# Altium footprint library SOP-20.PcbLib: 1 footprints
Each footprint in its own frame and in the unit in brackets; x right, y up, seen from the top. Pads: shape width x height; smd on the part's side, far side on the other; paste and mask are expansions set on the pad; w line width, h text height; cw(c..) or ccw(c..) is an arc to the next point about the centre after c.
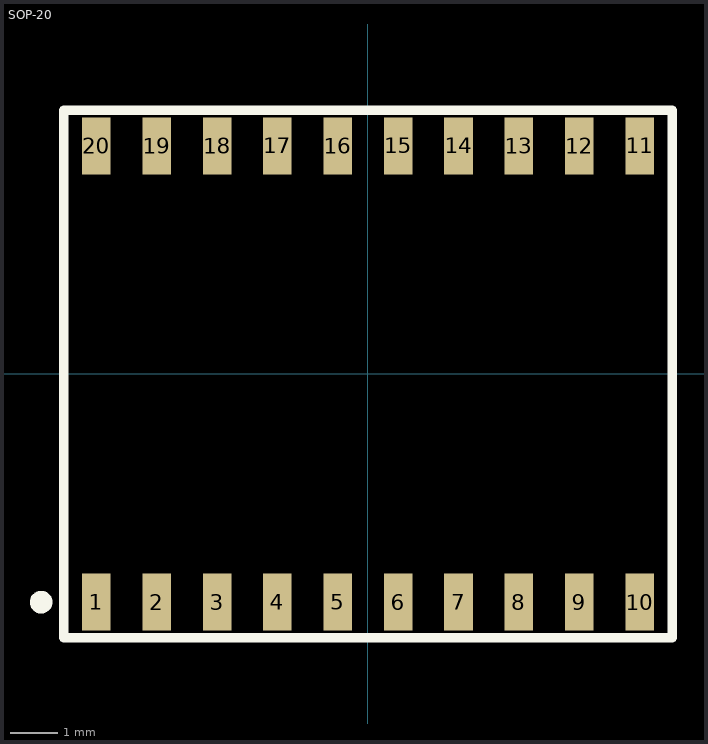
[diagram p0: the footprint, top view; thin cyan lines are the x and y axes]

## SOP-20 [mm]
pads (20):
  rect 0.6x1.2 smd: 1(-5.715,-4.8) 2(-4.445,-4.8) 3(-3.175,-4.8) 4(-1.905,-4.8) 5(-0.635,-4.8) 6(0.635,-4.8) 7(1.905,-4.8) 8(3.175,-4.8) 9(4.445,-4.8) 10(5.715,-4.8) 11(5.715,4.8) 12(4.445,4.8) 13(3.175,4.8) 14(1.905,4.8) 15(0.635,4.8) 16(-0.635,4.8) 17(-1.905,4.8) 18(-3.175,4.8) 19(-4.445,4.8) 20(-5.715,4.8)
Top Overlay:
  circle w0.254: c-6.875,-4.8 r0.112
  lines w0.2: -6.4,-5.55 6.4,-5.55 6.4,5.55 -6.4,5.55 -6.4,-5.55
Top Assembly:
  circle w0.254: c-5.7,-4.725 r0.112
  lines w0.1: -6.4,-5.55 -6.4,5.55 6.4,5.55 6.4,-5.55 -6.4,-5.55
  text "'.Designator'" at -0.925,-0.275 h0.7
3D body "User Library-sop-20-1.step": height 2.51, standoff 0, extent -6.35,-5.153 6.35,5.153